# Altium schematic symbol library 2N7002BKW,115.SchLib: 2 symbols
Pins are listed as number, name and electrical type; pins without a type are passive.

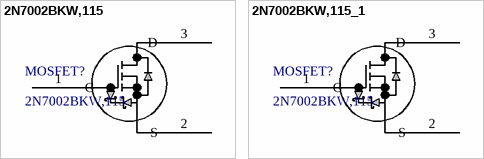
[diagram p0: symbols 2N7002BKW,115 to 2N7002BKW,115_1]

## 2N7002BKW,115
designator MOSFET?
No Description Available; Mfr_Name: Nexperia; Copyright: Copyright (C) 2022 Ultra Librarian. All rights reserved.; Manufacturer_Part_Number: 2N7002BKW,115; RefDes: RefDes; Type: DEV
footprint SC-70_SOT323_NEX
pins: 1 G, 2 S, 3 D

## 2N7002BKW,115_1
designator MOSFET?, comment 2N7002BKW,115
No Description Available; Mfr_Name: Nexperia; Copyright: Copyright (C) 2022 Ultra Librarian. All rights reserved.; Manufacturer_Part_Number: 2N7002BKW,115; RefDes: RefDes; Type: DEV
footprint SC-70_SOT323_NEX
pins: 1 G, 2 S, 3 D